# Altium footprint library IS42S32400D-6BL.PcbLib: 1 footprints
Each footprint in its own frame and in the unit in brackets; x right, y up, seen from the top. Pads: shape width x height; smd on the part's side, far side on the other; paste and mask are expansions set on the pad; w line width, h text height; cw(c..) or ccw(c..) is an arc to the next point about the centre after c.
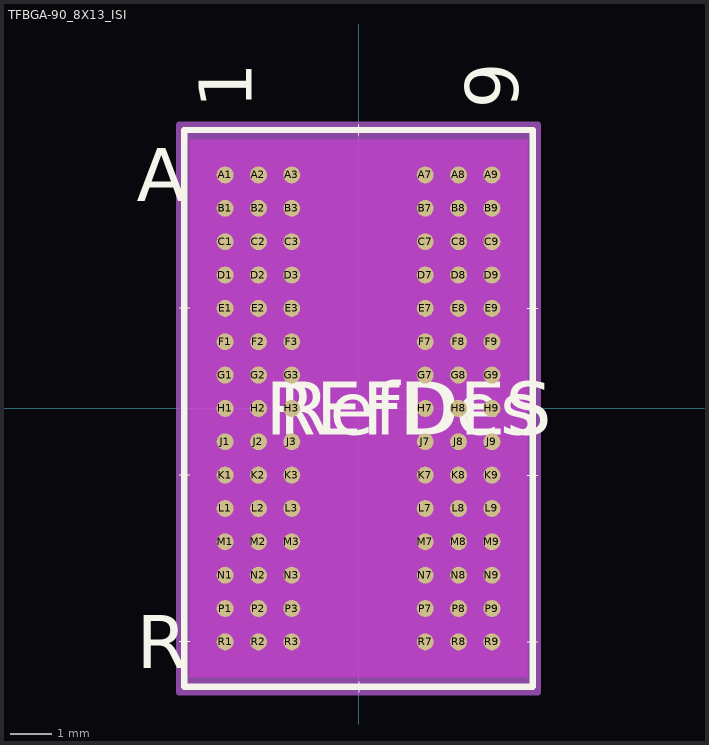
[diagram p0: the footprint, top view; thin cyan lines are the x and y axes]

## TFBGA-90_8X13_ISI [mil]
pads (90):
  round 16 smd paste+0 mask+0: A1(-125.98,220.47) A2(-94.49,220.47) A3(-62.99,220.47) A7(62.99,220.47) A8(94.49,220.47) A9(125.98,220.47) B1(-125.98,188.98) B2(-94.49,188.98) B3(-62.99,188.98) B7(62.99,188.98) B8(94.49,188.98) B9(125.98,188.98) C1(-125.98,157.48) C2(-94.49,157.48) C3(-62.99,157.48) C7(62.99,157.48) C8(94.49,157.48) C9(125.98,157.48) D1(-125.98,125.98) D2(-94.49,125.98) D3(-62.99,125.98) D7(62.99,125.98) D8(94.49,125.98) D9(125.98,125.98) E1(-125.98,94.49) E2(-94.49,94.49) E3(-62.99,94.49) E7(62.99,94.49) E8(94.49,94.49) E9(125.98,94.49) F1(-125.98,62.99) F2(-94.49,62.99) F3(-62.99,62.99) F7(62.99,62.99) F8(94.49,62.99) F9(125.98,62.99) G1(-125.98,31.5) G2(-94.49,31.5) G3(-62.99,31.5) G7(62.99,31.5) G8(94.49,31.5) G9(125.98,31.5) H1(-125.98,0) H2(-94.49,0) H3(-62.99,0) H7(62.99,0) H8(94.49,0) H9(125.98,0) J1(-125.98,-31.5) J2(-94.49,-31.5) J3(-62.99,-31.5) J7(62.99,-31.5) J8(94.49,-31.5) J9(125.98,-31.5) K1(-125.98,-62.99) K2(-94.49,-62.99) K3(-62.99,-62.99) K7(62.99,-62.99) K8(94.49,-62.99) K9(125.98,-62.99) L1(-125.98,-94.49) L2(-94.49,-94.49) L3(-62.99,-94.49) L7(62.99,-94.49) L8(94.49,-94.49) L9(125.98,-94.49) M1(-125.98,-125.98) M2(-94.49,-125.98) M3(-62.99,-125.98) M7(62.99,-125.98) M8(94.49,-125.98) M9(125.98,-125.98) N1(-125.98,-157.48) N2(-94.49,-157.48) N3(-62.99,-157.48) N7(62.99,-157.48) N8(94.49,-157.48) N9(125.98,-157.48) P1(-125.98,-188.98) P2(-94.49,-188.98) P3(-62.99,-188.98) P7(62.99,-188.98) P8(94.49,-188.98) P9(125.98,-188.98) R1(-125.98,-220.47) R2(-94.49,-220.47) R3(-62.99,-220.47) R7(62.99,-220.47) R8(94.49,-220.47) R9(125.98,-220.47)
Top Overlay:
  lines w1: -169.5,-220.47 -159.5,-220.47 ; -169.5,-62.99 -159.5,-62.99 ; -169.5,94.49 -159.5,94.49 ; 0,-268 0,-258 ; 0,258 0,268 ; 159.5,-220.47 169.5,-220.47 ; 159.5,-62.99 169.5,-62.99 ; 159.5,94.49 169.5,94.49
  lines w6: -164.5,-263 164.5,-263 164.5,263 -164.5,263 -164.5,-263
  text "A" at -209.5,195.47 h50
  text "R" at -209.5,-245.47 h50
  text "1" at -100.98,283 h50
  text "9" at 150.98,283 h50
  text "RefDes" at -75,-25 h50
  text "REFDES" at -87.5,-25 h50
Bottom Overlay:
  text "A" at -184.5,195.47 h50
  text "R" at -184.5,-245.47 h50
  text "1" at -150.98,283 h50
  text "9" at 100.98,283 h50
Keep-Out Layer:
  region: -159.23,-253.72 -159.23,253.72 159.23,253.72 159.23,-253.72
Mechanical 13:
  lines w1: -159.5,242.25 -143.75,258 ; -159.5,-258 159.5,-258 159.5,258 -159.5,258 -159.5,-258
  text "A" at -209.5,195.47 h50
  text "R" at -209.5,-245.47 h50
  text "1" at -100.98,283 h50
  text "9" at 150.98,283 h50
  text "RefDes2" at -87.5,-25 h50
Mechanical 15:
  region: 169.5,-268 -169.5,-268 -169.5,268 169.5,268
  lines w6: -169.5,-268 -169.5,268 169.5,268 169.5,-268 -169.5,-268
3D body "TFBGA-90_8X13_ISI.step": height 47.09, standoff -0.01, extent -159.49,-257.99 159.49,257.99